# EAGLE library part IR-SENSOR_AMG88XX (library FlashPCB_Sensors)
AMG88XX - High precision infared array sensor based on advanced MEMS technology Technical Specifications: Max Voltage: -0.3v - 6.5v Temperature Accuracy: ± 2.5 ℃ ±4.5 ℉ Component Search: AMG8833 <https://www.flashpcb.com/components> Datasheet: Infrared Array Sensor Grid-EYE AMG88xx <https://api.pim.na.industrial.panasonic.com/file_stream/main/fileversion/1819>
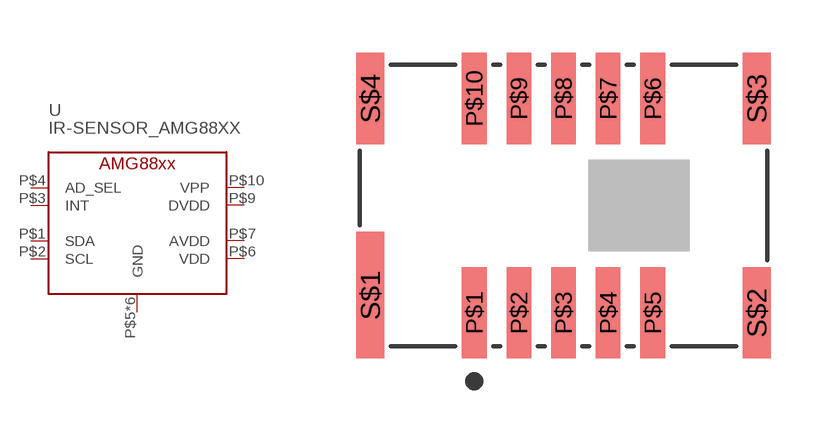
[diagram p13: symbol with the pads of 14-SMD; footprint 14-SMD]

Designator prefix U

## IR-SENSOR_AMG88XX  [14-SMD]
P$1  SDA
P$2  SCL
P$3  INT
P$4  AD_SEL
P$5  GND
P$6  VDD
P$7  AVDD
P$8  GND
P$9  DVDD
P$10  VPP
S$1  GND
S$2  GND
S$3  GND
S$4  GND

## Footprint 14-SMD (pad centres in mm)
smd 0.7 x 2.6: P$1 -2.54,-3.05; P$2 -1.27,-3.05; P$3 0,-3.05; P$4 1.27,-3.05; P$5 2.54,-3.05; P$6 2.54,3.05; P$7 1.27,3.05; P$8 0,3.05; P$9 -1.27,3.05; P$10 -2.54,3.05
smd 0.8 x 3.6: S$1 -5.5,-2.55
smd 0.8 x 2.6: S$2 5.5,-3.05; S$3 5.5,3.05; S$4 -5.5,3.05